# Altium integrated library XilinxFPGA-XC6SLX9-3TQG144C.IntLib: 1 symbol
Pins are listed as number, name and electrical type; pins without a type are passive.

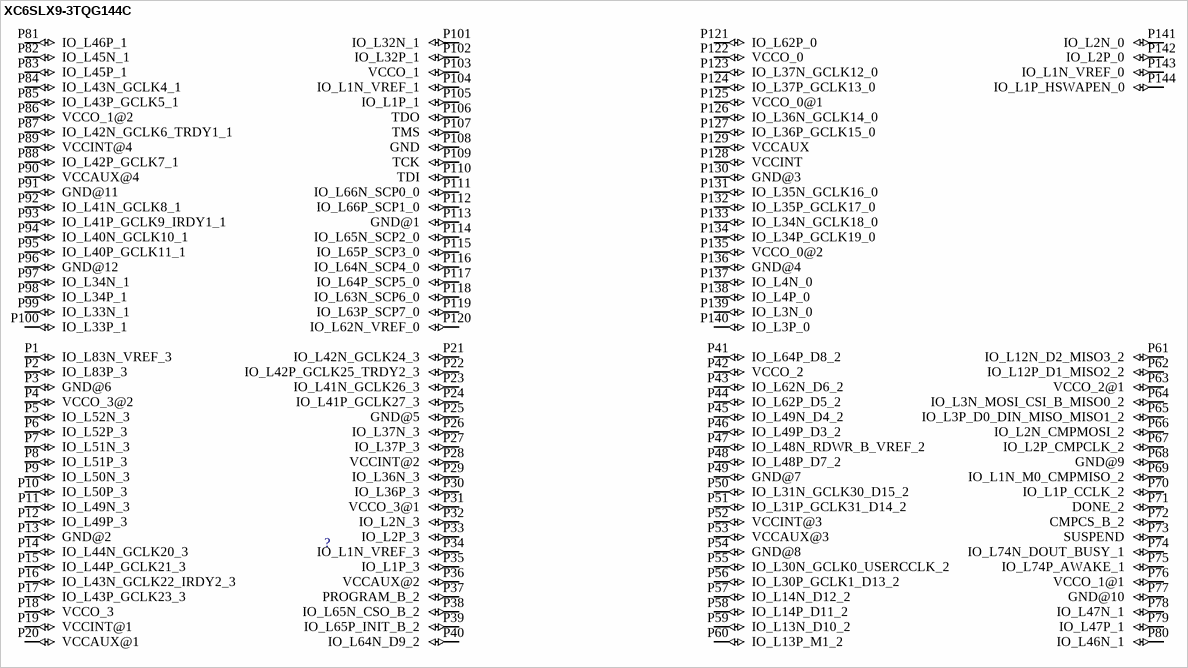
[diagram p0: symbol XC6SLX9-3TQG144C]

## XC6SLX9-3TQG144C
designator ?  (value not drawn)
FPGA SpartanÃ‚Â®-6 LX Family 9152 Cells 45nm (CMOS) Technology 1.2V 144-Pin TQFP; MP: XC6SLX9-3TQG144C; MF: Xilinx; Package: None; Availability: Bad; Price: 22.01 USD; Value: *
footprint TQ144_XC6SLX9-3TQG144C(Primary)
pins: P1 IO_L83N_VREF_3 (io), P2 IO_L83P_3 (io), P3 GND@6 (io), P4 VCCO_3@2 (io), P5 IO_L52N_3 (io), P6 IO_L52P_3 (io), P7 IO_L51N_3 (io), P8 IO_L51P_3 (io), P9 IO_L50N_3 (io), P10 IO_L50P_3 (io), P11 IO_L49N_3 (io), P12 IO_L49P_3 (io), P13 GND@2 (io), P14 IO_L44N_GCLK20_3 (io), P15 IO_L44P_GCLK21_3 (io), P16 IO_L43N_GCLK22_IRDY2_3 (io), P17 IO_L43P_GCLK23_3 (io), P18 VCCO_3 (io), P19 VCCINT@1 (io), P20 VCCAUX@1 (io), P21 IO_L42N_GCLK24_3 (io), P22 IO_L42P_GCLK25_TRDY2_3 (io), P23 IO_L41N_GCLK26_3 (io), P24 IO_L41P_GCLK27_3 (io), P25 GND@5 (io), P26 IO_L37N_3 (io), P27 IO_L37P_3 (io), P28 VCCINT@2 (io), P29 IO_L36N_3 (io), P30 IO_L36P_3 (io), P31 VCCO_3@1 (io), P32 IO_L2N_3 (io), P33 IO_L2P_3 (io), P34 IO_L1N_VREF_3 (io), P35 IO_L1P_3 (io), P36 VCCAUX@2 (io), P37 PROGRAM_B_2 (io), P38 IO_L65N_CSO_B_2 (io), P39 IO_L65P_INIT_B_2 (io), P40 IO_L64N_D9_2 (io), P41 IO_L64P_D8_2 (io), P42 VCCO_2 (io), P43 IO_L62N_D6_2 (io), P44 IO_L62P_D5_2 (io), P45 IO_L49N_D4_2 (io), P46 IO_L49P_D3_2 (io), P47 IO_L48N_RDWR_B_VREF_2 (io), P48 IO_L48P_D7_2 (io), P49 GND@7 (io), P50 IO_L31N_GCLK30_D15_2 (io), P51 IO_L31P_GCLK31_D14_2 (io), P52 VCCINT@3 (io), P53 VCCAUX@3 (io), P54 GND@8 (io), P55 IO_L30N_GCLK0_USERCCLK_2 (io), P56 IO_L30P_GCLK1_D13_2 (io), P57 IO_L14N_D12_2 (io), P58 IO_L14P_D11_2 (io), P59 IO_L13N_D10_2 (io), P60 IO_L13P_M1_2 (io), P61 IO_L12N_D2_MISO3_2 (io), P62 IO_L12P_D1_MISO2_2 (io), P63 VCCO_2@1 (io), P64 IO_L3N_MOSI_CSI_B_MISO0_2 (io), P65 IO_L3P_D0_DIN_MISO_MISO1_2 (io), P66 IO_L2N_CMPMOSI_2 (io), P67 IO_L2P_CMPCLK_2 (io), P68 GND@9 (io), P69 IO_L1N_M0_CMPMISO_2 (io), P70 IO_L1P_CCLK_2 (io), P71 DONE_2 (io), P72 CMPCS_B_2 (io), P73 SUSPEND (io), P74 IO_L74N_DOUT_BUSY_1 (io), P75 IO_L74P_AWAKE_1 (io), P76 VCCO_1@1 (io), P77 GND@10 (io), P78 IO_L47N_1 (io), P79 IO_L47P_1 (io), P80 IO_L46N_1 (io), P81 IO_L46P_1 (io), P82 IO_L45N_1 (io), P83 IO_L45P_1 (io), P84 IO_L43N_GCLK4_1 (io), P85 IO_L43P_GCLK5_1 (io), P86 VCCO_1@2 (io), P87 IO_L42N_GCLK6_TRDY1_1 (io), P88 IO_L42P_GCLK7_1 (io), P89 VCCINT@4 (io), P90 VCCAUX@4 (io), P91 GND@11 (io), P92 IO_L41N_GCLK8_1 (io), P93 IO_L41P_GCLK9_IRDY1_1 (io), P94 IO_L40N_GCLK10_1 (io), P95 IO_L40P_GCLK11_1 (io), P96 GND@12 (io), P97 IO_L34N_1 (io), P98 IO_L34P_1 (io), P99 IO_L33N_1 (io), P100 IO_L33P_1 (io), P101 IO_L32N_1 (io), P102 IO_L32P_1 (io), P103 VCCO_1 (io), P104 IO_L1N_VREF_1 (io), P105 IO_L1P_1 (io), P106 TDO (io), P107 TMS (io), P108 GND (io), P109 TCK (io), P110 TDI (io), P111 IO_L66N_SCP0_0 (io), P112 IO_L66P_SCP1_0 (io), P113 GND@1 (io), P114 IO_L65N_SCP2_0 (io), P115 IO_L65P_SCP3_0 (io), P116 IO_L64N_SCP4_0 (io), P117 IO_L64P_SCP5_0 (io), P118 IO_L63N_SCP6_0 (io), P119 IO_L63P_SCP7_0 (io), P120 IO_L62N_VREF_0 (io), P121 IO_L62P_0 (io), P122 VCCO_0 (io), P123 IO_L37N_GCLK12_0 (io), P124 IO_L37P_GCLK13_0 (io), P125 VCCO_0@1 (io), P126 IO_L36N_GCLK14_0 (io), P127 IO_L36P_GCLK15_0 (io), P128 VCCINT (io), P129 VCCAUX (io), P130 GND@3 (io), P131 IO_L35N_GCLK16_0 (io), P132 IO_L35P_GCLK17_0 (io), P133 IO_L34N_GCLK18_0 (io), P134 IO_L34P_GCLK19_0 (io), P135 VCCO_0@2 (io), P136 GND@4 (io), P137 IO_L4N_0 (io), P138 IO_L4P_0 (io), P139 IO_L3N_0 (io), P140 IO_L3P_0 (io), P141 IO_L2N_0 (io), P142 IO_L2P_0 (io), P143 IO_L1N_VREF_0 (io), P144 IO_L1P_HSWAPEN_0 (io)